# Altium schematic symbol library 4-2176166-7.SchLib: 1 symbol
Pins are listed as number, name and electrical type; pins without a type are passive.

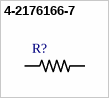
[diagram p0: symbol 4-2176166-7]

## 4-2176166-7
designator R?  (value not drawn)
Resistor, Fixed, R075, 2.0w, 1%, 2512; MF: TE Connectivity; MP: TLR3A20WR075FTDG; Price: None; TE_purchase_URL: https://www.te.com/usa-en/product-4-2176166-7.html?te_bu=Cor&te_type=disp&te_campaign=seda_glo_cor-seda-global-disp-prtnr-fy19-seda-model-bom-cta_sma-317_1&elqCampaignId=32493; Package: 2512 TE Connectivity; Availability: Unavailable; SnapEDA_Link: https://www.snapeda.com/parts/TLR3A20WR075FTDG/TE%20Connectivity%20/%20DEUTSCH/view-part/2771800/?ref=snap; Value: *
footprint *RESC6331X70N
pins: 1, 2